# EAGLE library part TPS562200 (library dan)
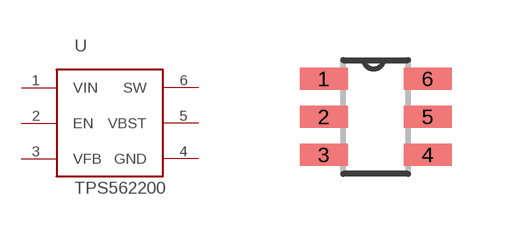
[diagram p0: symbol with the pads of SOT-23-6; footprint SOT-23-6]

Designator prefix -

## TPS562200  [SOT-23-6]
1  VIN
2  EN
3  VFB
4  GND
5  VBST
6  SW

## Footprint SOT-23-6 (pad centres in mm)
smd 1.2 x 0.55: 1 -1.3,0.95; 2 -1.3,0; 3 -1.3,-0.95; 4 1.3,-0.95; 5 1.3,0; 6 1.3,0.95